# Altium footprint library CB7JBR220.PcbLib: 1 footprints
Each footprint in its own frame and in the unit in brackets; x right, y up, seen from the top. Pads: shape width x height; smd on the part's side, far side on the other; paste and mask are expansions set on the pad; w line width, h text height; cw(c..) or ccw(c..) is an arc to the next point about the centre after c.
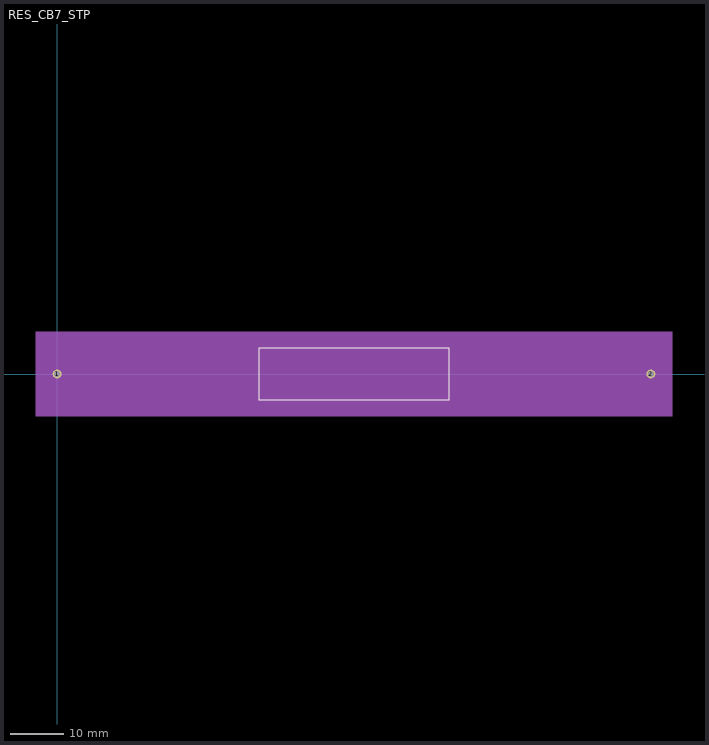
[diagram p0: the footprint, top view; thin cyan lines are the x and y axes]

## RES_CB7_STP [mil]
pads (2):
  round 66 hole 46 mask+0: 1(0,0) 2(4400,0)
Top Overlay:
  lines w6: 1495,-192.5 2905,-192.5 2905,192.5 1495,192.5 1495,-192.5
Mechanical 5:
  region: 4558,-312.5 -158,-312.5 -158,312.5 4558,312.5
Mechanical 13:
  lines w1: 0,0 1500,0 ; 2900,0 4400,0 ; 1500,-187.5 2900,-187.5 2900,187.5 1500,187.5 1500,-187.5
Mechanical 15:
  region: 1490,-43 -43,-43 -43,43 1490,43 1490,197.5 2910,197.5 2910,43 4443,43 4443,-43 2910,-43 2910,-197.5 1490,-197.5
  region: 2900,-187.5 1500,-187.5 1500,187.5 2900,187.5
  lines w6: -43,-43 -43,43 1490,43 1490,197.5 2910,197.5 2910,43 4443,43 4443,-43 2910,-43 2910,-197.5 1490,-197.5 1490,-43 -43,-43
3D body "RES_CB7_STP.step": height 373.5, standoff -100, extent -17.99,-187.13 4417.99,187.13